# Altium schematic symbol library ftsh-107-01-l-dv-k-a.SchLib: 1 symbol
Pins are listed as number, name and electrical type; pins without a type are passive.

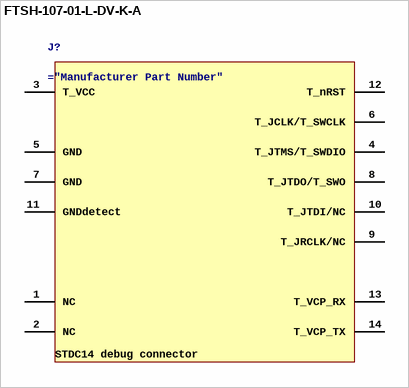
[diagram p0: symbol FTSH-107-01-L-DV-K-A]

## FTSH-107-01-L-DV-K-A
designator J?
Connector Header Surface Mount 14 position 0.050" (1.27mm)
pins: 1 NC, 2 NC, 3 T_VCC, 4 T_JTMS/T_SWDIO, 5 GND, 6 T_JCLK/T_SWCLK, 7 GND, 8 T_JTDO/T_SWO, 9 T_JRCLK/NC, 10 T_JTDI/NC, 11 GNDdetect, 12 T_nRST, 13 T_VCP_RX, 14 T_VCP_TX
text: STDC14 debug connector